# Altium schematic symbol library TRS_BI_NPN_PREBIASED.SchLib: 1 symbol
Pins are listed as number, name and electrical type; pins without a type are passive.

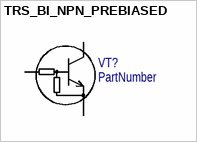
[diagram p0: symbol TRS_BI_NPN_PREBIASED]

## TRS_BI_NPN_PREBIASED
designator VT?  (value not drawn)
Биполярный NPN транзистор с резисторной подтяжкой базы и ограничением тока (дезигнаторы буквенные B/E/C); PartNumber: PartNumber
pins: B, C, E